# Altium schematic symbol library SCH - MCU - NUVOTON - NUVOTON M481ZE8AE.SchLib: 1 symbol
Pins are listed as number, name and electrical type; pins without a type are passive.

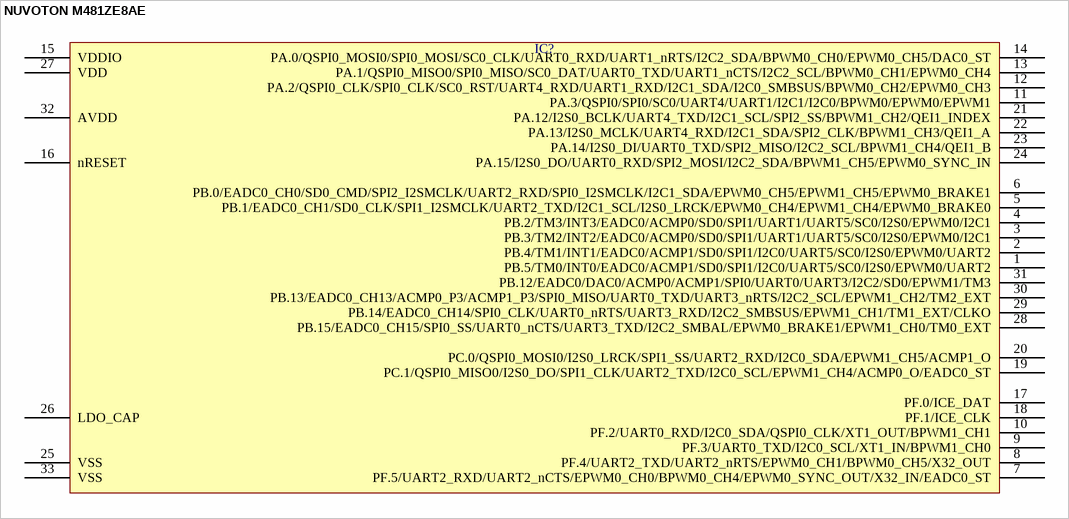
[diagram p0: symbol NUVOTON M481ZE8AE]

## NUVOTON M481ZE8AE
designator IC?  (value not drawn)
pins: 1 PB.5/TM0/INT0/EADC0/ACMP1/SD0/SPI1/I2C0/UART5/SC0/I2S0/EPWM0/UART2, 2 PB.4/TM1/INT1/EADC0/ACMP1/SD0/SPI1/I2C0/UART5/SC0/I2S0/EPWM0/UART2, 3 PB.3/TM2/INT2/EADC0/ACMP0/SD0/SPI1/UART1/UART5/SC0/I2S0/EPWM0/I2C1, 4 PB.2/TM3/INT3/EADC0/ACMP0/SD0/SPI1/UART1/UART5/SC0/I2S0/EPWM0/I2C1, 5 PB.1/EADC0_CH1/SD0_CLK/SPI1_I2SMCLK/UART2_TXD/I2C1_SCL/I2S0_LRCK/EPWM0_CH4/EPWM1_CH4/EPWM0_BRAKE0, 6 PB.0/EADC0_CH0/SD0_CMD/SPI2_I2SMCLK/UART2_RXD/SPI0_I2SMCLK/I2C1_SDA/EPWM0_CH5/EPWM1_CH5/EPWM0_BRAKE1, 7 PF.5/UART2_RXD/UART2_nCTS/EPWM0_CH0/BPWM0_CH4/EPWM0_SYNC_OUT/X32_IN/EADC0_ST, 8 PF.4/UART2_TXD/UART2_nRTS/EPWM0_CH1/BPWM0_CH5/X32_OUT, 9 PF.3/UART0_TXD/I2C0_SCL/XT1_IN/BPWM1_CH0, 10 PF.2/UART0_RXD/I2C0_SDA/QSPI0_CLK/XT1_OUT/BPWM1_CH1, 11 PA.3/QSPI0/SPI0/SC0/UART4/UART1/I2C1/I2C0/BPWM0/EPWM0/EPWM1, 12 PA.2/QSPI0_CLK/SPI0_CLK/SC0_RST/UART4_RXD/UART1_RXD/I2C1_SDA/I2C0_SMBSUS/BPWM0_CH2/EPWM0_CH3, 13 PA.1/QSPI0_MISO0/SPI0_MISO/SC0_DAT/UART0_TXD/UART1_nCTS/I2C2_SCL/BPWM0_CH1/EPWM0_CH4, 14 PA.0/QSPI0_MOSI0/SPI0_MOSI/SC0_CLK/UART0_RXD/UART1_nRTS/I2C2_SDA/BPWM0_CH0/EPWM0_CH5/DAC0_ST, 15 VDDIO, 16 nRESET, 17 PF.0/ICE_DAT, 18 PF.1/ICE_CLK, 19 PC.1/QSPI0_MISO0/I2S0_DO/SPI1_CLK/UART2_TXD/I2C0_SCL/EPWM1_CH4/ACMP0_O/EADC0_ST, 20 PC.0/QSPI0_MOSI0/I2S0_LRCK/SPI1_SS/UART2_RXD/I2C0_SDA/EPWM1_CH5/ACMP1_O, 21 PA.12/I2S0_BCLK/UART4_TXD/I2C1_SCL/SPI2_SS/BPWM1_CH2/QEI1_INDEX, 22 PA.13/I2S0_MCLK/UART4_RXD/I2C1_SDA/SPI2_CLK/BPWM1_CH3/QEI1_A, 23 PA.14/I2S0_DI/UART0_TXD/SPI2_MISO/I2C2_SCL/BPWM1_CH4/QEI1_B, 24 PA.15/I2S0_DO/UART0_RXD/SPI2_MOSI/I2C2_SDA/BPWM1_CH5/EPWM0_SYNC_IN, 25 VSS, 26 LDO_CAP, 27 VDD, 28 PB.15/EADC0_CH15/SPI0_SS/UART0_nCTS/UART3_TXD/I2C2_SMBAL/EPWM0_BRAKE1/EPWM1_CH0/TM0_EXT, 29 PB.14/EADC0_CH14/SPI0_CLK/UART0_nRTS/UART3_RXD/I2C2_SMBSUS/EPWM1_CH1/TM1_EXT/CLKO, 30 PB.13/EADC0_CH13/ACMP0_P3/ACMP1_P3/SPI0_MISO/UART0_TXD/UART3_nRTS/I2C2_SCL/EPWM1_CH2/TM2_EXT, 31 PB.12/EADC0/DAC0/ACMP0/ACMP1/SPI0/UART0/UART3/I2C2/SD0/EPWM1/TM3, 32 AVDD, 33 VSS